# Altium footprint library RPSLib_Resistors.PcbLib: 22 footprints (part 1 of 2)
Each footprint in its own frame and in the unit in brackets; x right, y up, seen from the top. Pads: shape width x height; smd on the part's side, far side on the other; paste and mask are expansions set on the pad; w line width, h text height; cw(c..) or ccw(c..) is an arc to the next point about the centre after c.
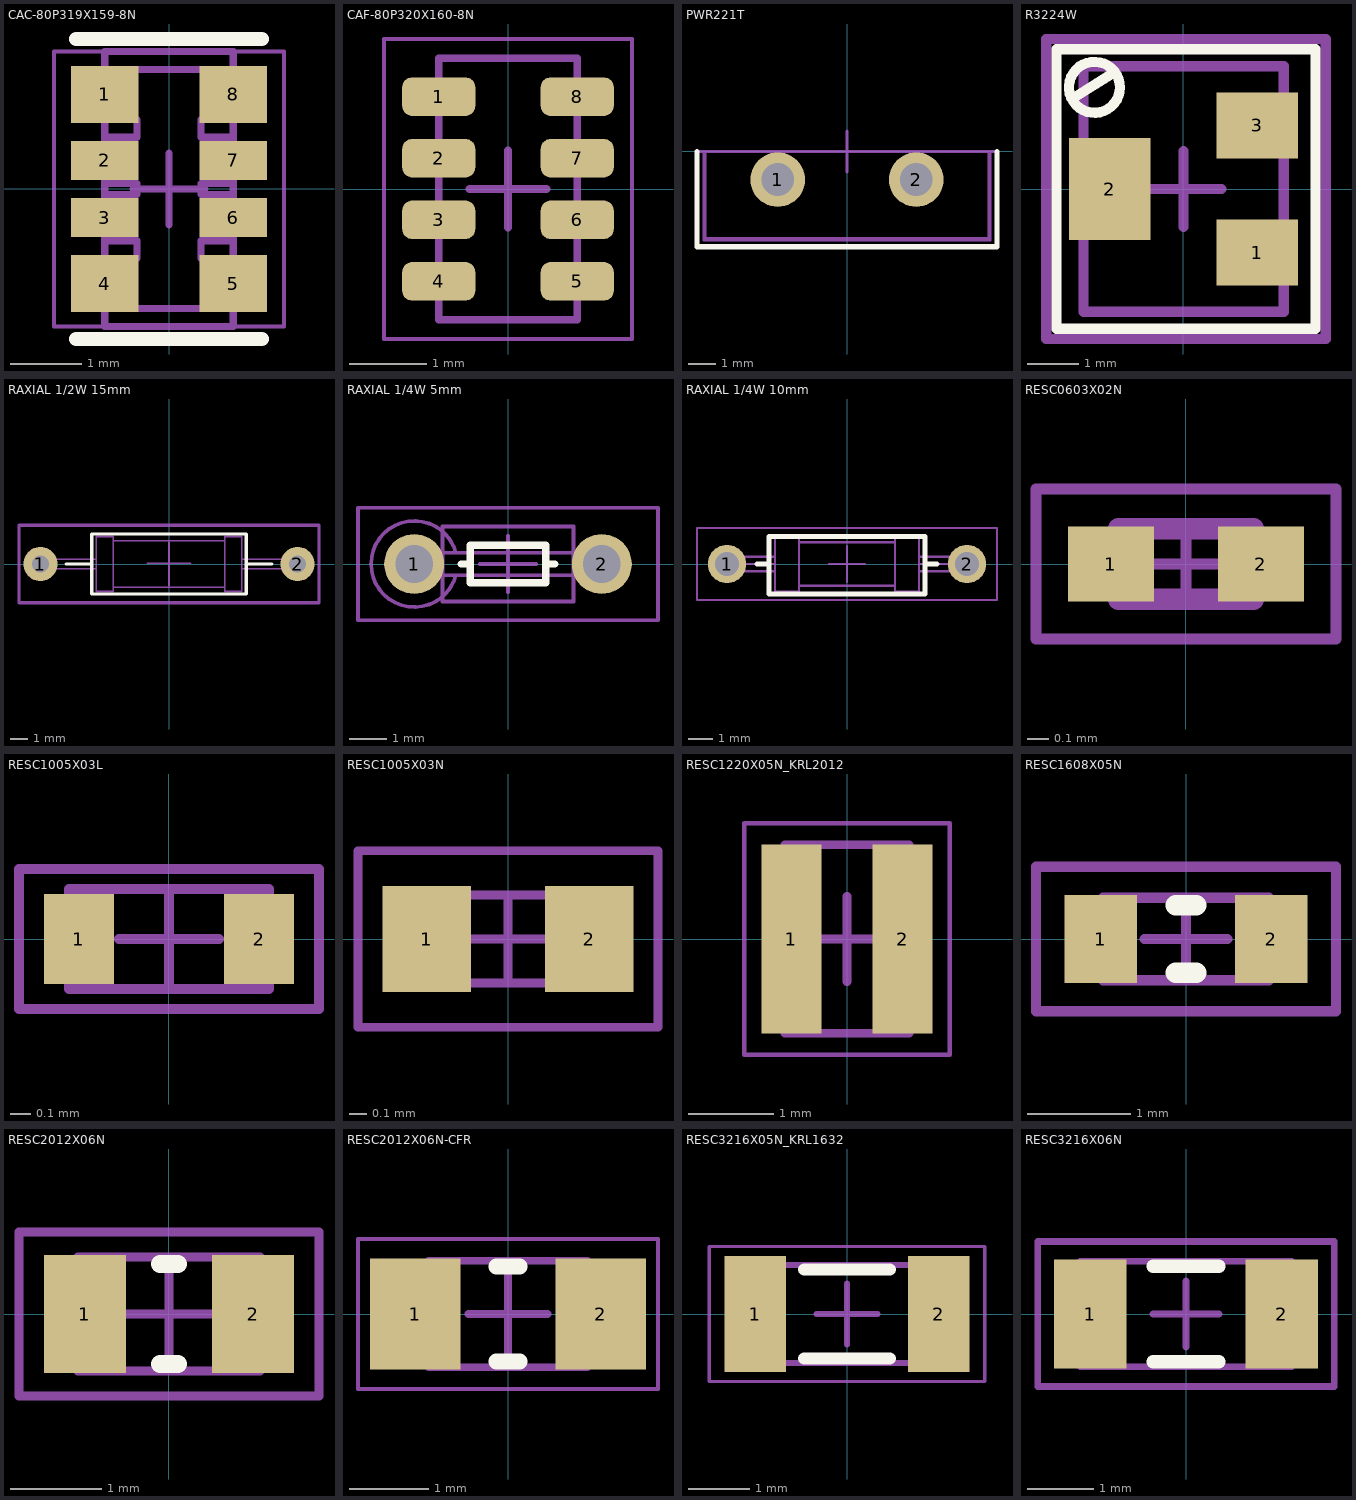
[diagram p0: the footprints below, top view; thin cyan lines are the x and y axes]

## CAC-80P319X159-8N [mm] "Chip Array, ConvexS, 8-Leads, Pitch 0.80mm,  Body 3.20x1.60mm,  IPC Medium Density"
height 1
pads (8):
  rect 0.95x0.8 smd mask+0.07: 1(-0.9,1.325) 4(-0.9,-1.325) 5(0.9,-1.325) 8(0.9,1.325)
  rect 0.95x0.55 smd mask+0.07: 2(-0.9,0.4) 3(-0.9,-0.4) 6(0.9,-0.4) 7(0.9,0.4)
Top Overlay:
  lines w0.2: -1.3,-2.1 1.3,-2.1 ; -1.3,2.1 1.3,2.1
Mechanical 1:
  lines w0.1: -0.9,-1.925 -0.9,1.925 0.9,1.925 0.9,-1.925 -0.9,-1.925
  text ".Designator" at 0.113,-1.126 h0.5
Mechanical 13:
  lines w0.1: -0.9,-1.675 0.9,-1.675 0.9,-0.975 0.45,-0.975 0.45,-0.725 0.9,-0.725 0.9,-0.075 0.45,-0.075 0.45,0.075 0.9,0.075 0.9,0.725 0.45,0.725 0.45,0.975 0.9,0.975 0.9,1.675 -0.9,1.675 -0.9,0.975 -0.45,0.975 -0.45,0.725 -0.9,0.725 -0.9,0.075 -0.45,0.075 -0.45,-0.075 -0.9,-0.075 -0.9,-0.725 -0.45,-0.725 -0.45,-0.975 -0.9,-0.975 -0.9,-1.675
Mechanical 15:
  lines w0.05: -1.61,-1.925 1.61,-1.925 1.61,1.925 -1.61,1.925 -1.61,-1.925
  lines w0.1: -0.5,0 0.5,0 ; 0,-0.5 0,0.5
3D body "CAC-80P319X159-8N.step": height 1, standoff 0, extent -0.95,-1.675 0.95,1.675

## CAF-80P320X160-8N [mm] "Chip Array, Flat, 8-Leads, Pitch 0,80mm,  Body 3,20x1,60mm,  IPC Medium Density"
height 0.9
pads (8):
  rrect50% 0.95x0.5 smd mask+0.07: 1(-0.9,1.2) 2(-0.9,0.4) 3(-0.9,-0.4) 4(-0.9,-1.2) 5(0.9,-1.2) 6(0.9,-0.4) 7(0.9,0.4) 8(0.9,1.2)
Mechanical 13:
  lines w0.1: -0.9,-1.7 -0.9,1.7 0.9,1.7 0.9,-1.7 -0.9,-1.7
Mechanical 15:
  lines w0.05: -1.61,-1.95 -1.61,1.95 1.61,1.95 1.61,-1.95 -1.61,-1.95
  lines w0.1: -0.5,0 0.5,0 ; 0,-0.5 0,0.5
3D body "CAF-80P320X160-8N.step": height 0.9, standoff 0, extent -0.95,-1.7 0.95,1.7

## PWR221T [mm] "PWR221T-30 Series Power Resistor"
height 19
pads (2):
  round 2 hole 1.2 mask+0.07: 1(-2.54,-1.03) 2(2.54,-1.03)
Top Overlay:
  lines w0.2: -5.5,0 -5.5,-3.5 5.5,-3.5 5.5,0
Mechanical 1:
  lines w0.1: -5.25,-3.25 5.25,-3.25 5.25,0 -5.25,0 -5.25,-3.25
  text ".Designator" at -1.126,-1.709 h0.5
Mechanical 13:
  lines w0.1: -5.205,-3.18 5.205,-3.18 5.205,0 -5.205,0 -5.205,-3.18
Mechanical 15:
  lines w0.1: -0.75,0 0.75,0 ; 0,-0.75 0,0.75 ; -5.5,-3.5 -5.5,0 5.5,0 5.5,-3.5 -5.5,-3.5
3D body "PWR221T.stp": height 18.8, standoff -10.16, extent -5.205,-3.18 5.205,0

## R3224W [mm] "Подстроечный резистор"
height 5.3
pads (3):
  rect 1.6x1.3 smd mask+0.07: 1(1.45,-1.25) 3(1.45,1.25)
  rect 1.6x2 smd mask+0.07: 2(-1.45,0)
Top Overlay:
  circle w0.2: c-1.75,2 r0.501
  lines w0.2: -2.189,1.773 -1.35,2.3 ; -2.5,-2.75 2.6,-2.75 2.6,2.75 -2.5,2.75 -2.5,-2.75
Mechanical 13:
  lines w0.2: -1.965,-2.413 -1.965,2.413 1.973,2.413 1.973,-2.413 -1.965,-2.413
Mechanical 15:
  lines w0.2: -0.75,0 0.75,0 ; 0,-0.75 0,0.75 ; -2.7,-2.95 2.8,-2.95 2.8,2.95 -2.7,2.95 -2.7,-2.95
3D body "Bourns-3224w-1-104e.stp": height 5.28, standoff 0, extent -1.965,-2.413 1.973,2.413

## RAXIAL 1/2W 15mm [mm] "Resistor axial 1/2W, 15mm"
height 3.5
pads (2):
  round 2 hole 1 mask+0.07: 1(-7.5,0) 2(7.5,0)
Top Overlay:
  lines w0.2: -6,0 -4.5,0 ; 4.5,0 6,0 ; -4.5,-1.75 4.5,-1.75 4.5,1.75 -4.5,1.75 -4.5,-1.75
Mechanical 13:
  lines w0.1: -4.25,-0.275 -6,-0.275 -7.5,-0.275 cw(c-7.5,0) -7.5,0.275 -6,0.275 -4.25,0.275 ; -3.25,-1.35 3.25,-1.35 ; -3.25,1.35 3.25,1.35 ; 4.25,-0.275 6,-0.275 7.5,-0.275 ccw(c7.5,0) 7.5,0.275 6,0.275 4.25,0.275 ; -4.25,-1.6 -4.25,1.6 -3.25,1.6 -3.25,-1.6 -4.25,-1.6 ; 3.25,-1.6 3.25,1.6 4.25,1.6 4.25,-1.6 3.25,-1.6
Mechanical 15:
  lines w0.1: -1.25,0.048 1.25,0.048 ; 0,-1.25 0,1.25
  lines w0.2: -8.75,-2.25 8.75,-2.25 8.75,2.25 -8.75,2.25 -8.75,-2.25
3D body "Resistor CF12 0.5W.stp": height 3.45, standoff -2, extent -7.774,-1.6 7.774,1.6

## RAXIAL 1/4W 5mm [mm] "Resistor axial 1/4W, 5mm"
height 2.5
pads (2):
  round 1.6 hole 1 mask+0.07: 1(-2.5,0) 2(2.5,0)
Top Overlay:
  lines w0.2: -1.25,0 -1,0 ; 1,0 1.25,0 ; -1,-0.5 1,-0.5 1,0.5 -1,0.5 -1,-0.5
Mechanical 1:
  lines w0.1: -2.5,0 -1.75,0 ; 1.75,0 2.5,0 ; -1.75,-1 1.75,-1 1.75,1 -1.75,1 -1.75,-1
  text ".Designator" at -1.127,-0.113 h0.5
Mechanical 13:
  lines w0.1: -1.39,-0.3 cw(c-2.5,0) -1.39,0.3 ; -2.5,-0.3 cw(c-2.5,0) -2.5,0.3 -1,0.3 1,0.3 2.5,0.3 cw(c2.5,0) 2.5,-0.3 1,-0.3 -1,-0.3 -2.5,-0.3
Mechanical 15:
  lines w0.1: -0.75,0 0.75,0 ; 0,-0.75 0,0.75 ; -4,-1.5 4,-1.5 4,1.5 -4,1.5 -4,-1.5
3D body "RA-0.25-5.stp": height 9.5, standoff -3.3, extent -3.65,-1.142 2.8,1.142

## RAXIAL 1/4W 10mm [mm] "Resistor axial 1/4W, 10mm"
height 2.5
pads (2):
  round 1.6 hole 1 mask+0.07: 1(-5,0) 2(5,0)
Top Overlay:
  lines w0.2: -3.75,0 -3.25,0 ; 3.25,0 3.75,0 ; -3.25,-1.25 3.25,-1.25 3.25,1.15 -3.25,1.15 -3.25,-1.25
Mechanical 1:
  lines w0.1: -4.5,0 -3,0 ; 3,0 4.5,0 ; -3,-1.25 3,-1.25 3,1.15 -3,1.15 -3,-1.25
  text ".Designator" at -1.127,-0.113 h0.5
Mechanical 13:
  lines w0.1: -3,-0.3 -4,-0.3 -5,-0.3 cw(c-5,0) -5,0.3 ; -3,0.3 -4,0.3 -5,0.3 ; -2,-0.9 2,-0.9 ; -2,0.9 2,0.9 ; 3,-0.3 4,-0.3 5,-0.3 ccw(c5,0) 5,0.3 ; 3,0.3 4,0.3 5,0.3 ; -5,0.3 ccw(c-5,0) -5,0.3 ; 5,0.3 ccw(c5,0) 5,0.3 ; -3,-1.15 -2,-1.15 -2,1.15 -3,1.15 -3,-1.15 ; 2,-1.15 3,-1.15 3,1.15 2,1.15 2,-1.15
Mechanical 15:
  lines w0.1: -0.75,0 0.75,0 ; 0,-0.75 0,0.75 ; -6.25,-1.5 6.25,-1.5 6.25,1.5 -6.25,1.5 -6.25,-1.5
3D body "RA-0.25-10.stp": height 2.45, standoff -2.2, extent -5.298,-1.142 5.298,1.142

## RESC0603X02N [mm] "Chip Resistor, 2-Leads, Body 0.60x0.30mm, IPC Medium Density"
height 0.23
pads (2):
  rect 0.4x0.35 smd paste-1: 1(-0.35,0) 2(0.35,0)
Top Paste:
  region: -0.45,-0.15 -0.46,-0.15 -0.478,-0.142 -0.492,-0.128 -0.5,-0.11 -0.5,-0.1 -0.5,0.1 -0.5,0.11 -0.492,0.128 -0.478,0.142 -0.46,0.15 -0.45,0.15 -0.225,0.15 -0.215,0.15 -0.197,0.142 -0.183,0.128 -0.175,0.11 -0.175,0.1 -0.175,-0.1 -0.175,-0.11 -0.183,-0.128 -0.197,-0.142 -0.215,-0.15 -0.225,-0.15
  region: 0.45,0.15 0.46,0.15 0.478,0.142 0.492,0.128 0.5,0.11 0.5,0.1 0.5,-0.1 0.5,-0.11 0.492,-0.128 0.478,-0.142 0.46,-0.15 0.45,-0.15 0.225,-0.15 0.215,-0.15 0.197,-0.142 0.183,-0.128 0.175,-0.11 0.175,-0.1 0.175,0.1 0.175,0.11 0.183,0.128 0.197,0.142 0.215,0.15 0.225,0.15
Mechanical 13:
  lines w0.1: -0.315,-0.165 -0.315,0.165 0.315,0.165 0.315,-0.165 -0.315,-0.165
Mechanical 15:
  lines w0.05: -0.165,0 0.165,0 ; 0,-0.165 0,0.165 ; -0.7,-0.35 -0.7,0.35 0.7,0.35 0.7,-0.35 -0.7,-0.35
3D body "RESC0603X02N.step": height 0.23, standoff 0, extent -0.315,-0.165 0.315,0.165

## RESC1005X03L [mm] "Chip Resistor, 2-Leads, Body 1.00x0.50mm, IPC High Density"
height 0.35
pads (2):
  rect 0.35x0.45 smd mask+0.07: 1(-0.45,0) 2(0.45,0)
Mechanical 13:
  lines w0.05: -0.5,-0.25 -0.5,0.25 0.5,0.25 0.5,-0.25 -0.5,-0.25
Mechanical 15:
  lines w0.05: -0.25,0 0.25,0 ; 0,-0.25 0,0.25 ; -0.75,-0.35 -0.75,0.35 0.75,0.35 0.75,-0.35 -0.75,-0.35
3D body "RESC1005X03L.step": height 0.35, standoff 0, extent -0.5,-0.25 0.5,0.25

## RESC1005X03N [mm] "Chip Resistor, 2-Leads, Body 1.00x0.50mm, IPC Medium Density"
height 0.35
pads (2):
  rect 0.5x0.6 smd paste-0.03 mask+0.07: 1(-0.46,0) 2(0.46,0)
Mechanical 1:
  lines w0.05: -0.85,-0.5 0.85,-0.5 0.85,0.5 -0.85,0.5 -0.85,-0.5
  text ".Designator" at -1.126,-0.113 h0.5
Mechanical 13:
  lines w0.05: -0.5,-0.25 0.5,-0.25 0.5,0.25 -0.5,0.25 -0.5,-0.25
Mechanical 15:
  lines w0.05: -0.25,0 0.25,0 ; 0,-0.25 0,0.25 ; -0.85,-0.5 0.85,-0.5 0.85,0.5 -0.85,0.5 -0.85,-0.5
3D body "RESC1005X03L.step": height 0.35, standoff 0, extent -0.5,-0.25 0.5,0.25

## RESC1220X05N_KRL2012 [mm] "Chip Resistor, 2-Leads, Body 1.25x2.00mm, IPC Medium Density"
height 0.5
pads (2):
  rect 0.7x2.2 smd mask+0.07: 1(-0.65,0) 2(0.65,0)
Mechanical 13:
  lines w0.1: -0.725,-1.1 0.725,-1.1 0.725,1.1 -0.725,1.1 -0.725,-1.1
Mechanical 15:
  lines w0.05: -1.2,-1.35 1.2,-1.35 1.2,1.35 -1.2,1.35 -1.2,-1.35
  lines w0.1: -0.5,0 0.5,0 ; 0,-0.5 0,0.5
3D body "RESC1220X05N.step": height 0.5, standoff 0, extent -0.725,-1.1 0.725,1.1

## RESC1608X05N [mm] "Chip Resistor, 2-Leads, Body 1.60x0.80mm, IPC Medium Density"
height 0.45
pads (2):
  rect 0.7x0.85 smd paste-0.05: 1(-0.825,0) 2(0.825,0)
Top Overlay:
  lines w0.2: -0.1,-0.325 0.1,-0.325 ; -0.1,0.325 0.1,0.325
Mechanical 1:
  lines w0.1: -1.45,-0.7 -1.45,0.7 1.45,0.7 1.45,-0.7 -1.45,-0.7
  text ".Designator" at -1.126,-0.113 h0.5
Mechanical 13:
  lines w0.1: -0.8,-0.4 0.8,-0.4 0.8,0.4 -0.8,0.4 -0.8,-0.4
Mechanical 15:
  lines w0.05: -1.45,-0.7 1.45,-0.7 1.45,0.7 -1.45,0.7 -1.45,-0.7
  lines w0.1: -0.4,0 0.4,0 ; 0,-0.4 0,0.4
3D body "RESC1608X05N.step": height 0.45, standoff 0, extent -0.8,-0.4 0.8,0.4

## RESC2012X06N [mm] "Chip Resistor, 2-Leads, Body 2.00x1.25mm, IPC Medium Density"
height 0.6
pads (2):
  rect 0.9x1.3 smd paste-0.05 mask+0.07: 1(-0.925,0) 2(0.925,0)
Top Overlay:
  lines w0.2: -0.1,-0.55 0.1,-0.55 ; -0.1,0.55 0.1,0.55
Mechanical 1:
  lines w0.1: -1.65,-0.9 -1.65,0.9 1.65,0.9 1.65,-0.9 -1.65,-0.9
  text ".Designator" at -1.126,-0.113 h0.5
Mechanical 13:
  lines w0.1: -1,-0.625 1,-0.625 1,0.625 -1,0.625 -1,-0.625
Mechanical 15:
  lines w0.05: -1.65,-0.9 1.65,-0.9 1.65,0.9 -1.65,0.9 -1.65,-0.9
  lines w0.1: -0.5,0 0.5,0 ; 0,-0.5 0,0.5
3D body "RESC2012X06N.step": height 0.6, standoff 0, extent -1,-0.625 1,0.625

## RESC2012X06N-CFR [mm] "Chip Resistor, 2-Leads, Body 1.95x1.25mm, IPC Medium Density"
height 0.6
pads (2):
  rect 1.15x1.4 smd mask+0.07: 1(-1.175,0) 2(1.175,0)
Top Overlay:
  lines w0.2: -0.15,-0.6 0.15,-0.6 ; -0.15,0.6 0.15,0.6
Mechanical 13:
  lines w0.1: -1,-0.675 -1,0.675 1,0.675 1,-0.675 -1,-0.675
Mechanical 15:
  lines w0.05: -1.9,-0.95 -1.9,0.95 1.9,0.95 1.9,-0.95 -1.9,-0.95
  lines w0.1: -0.5,0 0.5,0 ; 0,-0.5 0,0.5
3D body "RESC2012X06N-CFR.step": height 0.6, standoff 0, extent -1,-0.675 1,0.675

## RESC3216X05N_KRL1632 [mm] "Chip Resistor, 2-Leads, Body 3.20x1.60mm, IPC Medium Density"
height 0.5
pads (2):
  rect 1x1.9 smd: 1(-1.5,0) 2(1.5,0)
Top Overlay:
  lines w0.2: -0.7,-0.725 0.7,-0.725 ; -0.7,0.725 0.7,0.725
Mechanical 13:
  lines w0.1: -1.6,-0.8 -1.6,0.8 1.6,0.8 1.6,-0.8 -1.6,-0.8
Mechanical 15:
  lines w0.05: -2.25,-1.1 -2.25,1.1 2.25,1.1 2.25,-1.1 -2.25,-1.1
  lines w0.1: -0.5,0 0.5,0 ; 0,-0.5 0,0.5
3D body "RESC3216X05N.step": height 0.5, standoff 0, extent -1.6,-0.8 1.6,0.8

## RESC3216X06N [mm] "Chip Resistor, 2-Leads, Body 3.20x1.60mm, IPC Medium Density"
height 0.6
pads (2):
  rect 1.1x1.65 smd: 1(-1.45,0) 2(1.45,0)
Top Overlay:
  lines w0.2: -0.5,-0.725 0.5,-0.725 ; -0.5,0.725 0.5,0.725
Mechanical 1:
  lines w0.1: -2.25,-1.1 2.25,-1.1 2.25,1.1 -2.25,1.1 -2.25,-1.1
  text ".Designator" at -1.126,-0.113 h0.5
Mechanical 13:
  lines w0.1: -1.6,-0.8 1.6,-0.8 1.6,0.8 -1.6,0.8 -1.6,-0.8
Mechanical 15:
  lines w0.05: -2.25,-1.1 2.25,-1.1 2.25,1.1 -2.25,1.1 -2.25,-1.1
  lines w0.1: -0.5,0 0.5,0 ; 0,-0.5 0,0.5
3D body "RESC3216X06N.step": height 0.6, standoff 0, extent -1.6,-0.8 1.6,0.8